# EAGLE library part KEEYEES_ESP32 (library ME507)
Footprint for an add-on board (shield, hat, etc.) for a KeeYees ESP32 development board with ESP-WROOM-32 module. 38 pins.
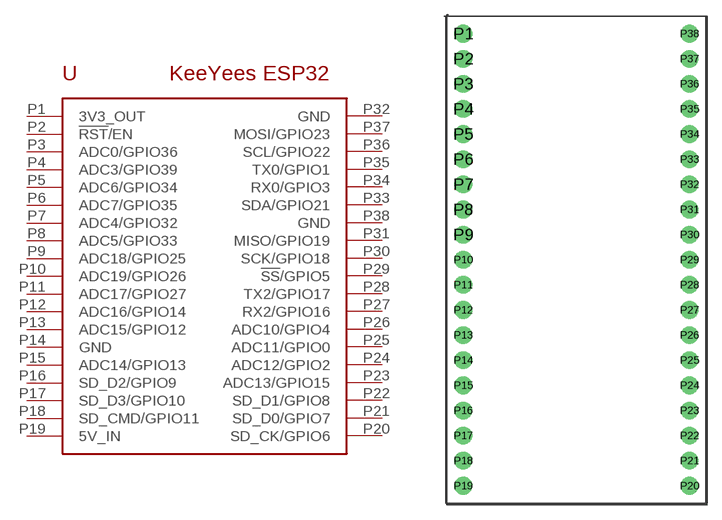
[diagram p8: symbol with the pads of KEEYEES_ESP32; footprint KEEYEES_ESP32]

Designator prefix -

## KEEYEES_ESP32  [KEEYEES_ESP32]
P1  3V3_OUT  pwr
P2  !RST!/EN  in
P3  ADC0/GPIO36
P4  ADC3/GPIO39
P5  ADC6/GPIO34
P6  ADC7/GPIO35
P7  ADC4/GPIO32
P8  ADC5/GPIO33
P9  ADC18/GPIO25
P10  ADC19/GPIO26
P11  ADC17/GPIO27
P12  ADC16/GPIO14
P13  ADC15/GPIO12
P14  GND  pwr
P15  ADC14/GPIO13
P16  SD_D2/GPIO9
P17  SD_D3/GPIO10
P18  SD_CMD/GPIO11
P19  5V_IN  pwr
P20  SD_CK/GPIO6
P21  SD_D0/GPIO7
P22  SD_D1/GPIO8
P23  ADC13/GPIO15
P24  ADC12/GPIO2
P25  ADC11/GPIO0
P26  ADC10/GPIO4
P27  RX2/GPIO16
P28  TX2/GPIO17
P29  !SS!/GPIO5
P30  SCK/GPIO18
P31  MISO/GPIO19
P32  GND  pwr
P33  SDA/GPIO21
P34  RX0/GPIO3
P35  TX0/GPIO1
P36  SCL/GPIO22
P37  MOSI/GPIO23
P38  GND  pwr

## Footprint KEEYEES_ESP32 (pad centres in mm)
KeeYees ESP32 development board with ESP-WROOM-32 module
drill 1 pad 1.778: P1 -11.43,21.59; P2 -11.43,19.05; P3 -11.43,16.51; P4 -11.43,13.97; P5 -11.43,11.43; P6 -11.43,8.89; P7 -11.43,6.35; P8 -11.43,3.81; P9 -11.43,1.27; P10 -11.43,-1.27; P11 -11.43,-3.81; P12 -11.43,-6.35; P13 -11.43,-8.89; P14 -11.43,-11.43; P15 -11.43,-13.97; P16 -11.43,-16.51; P17 -11.43,-19.05; P18 -11.43,-21.59; P19 -11.43,-24.13; P20 11.43,-24.13; P21 11.43,-21.59; P22 11.43,-19.05; P23 11.43,-16.51; P24 11.43,-13.97; P25 11.43,-11.43; P26 11.43,-8.89; P27 11.43,-6.35; P28 11.43,-3.81; P29 11.43,-1.27; P30 11.43,1.27; P31 11.43,3.81; P32 11.43,6.35; P33 11.43,8.89; P34 11.43,11.43; P35 11.43,13.97; P36 11.43,16.51; P37 11.43,19.05; P38 11.43,21.59